# EAGLE library part DIODE_TVS_ARRAY_CM1293A (library PiezoFFC)
https://www.onsemi.com/pub/Collateral/CM1293A-D.PDF
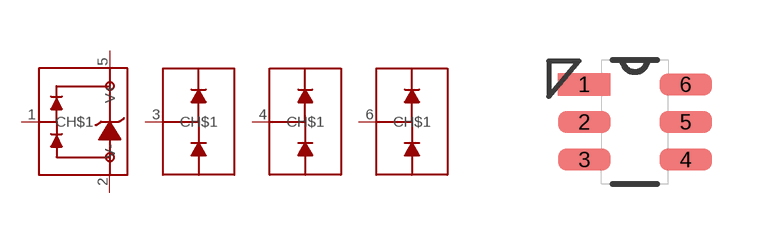
[diagram p1: symbol with the pads of SC-74-6; footprint SC-74-6]

Designator prefix D; gates G$1=TVS_DIODE_PRIMARY G$2=TVS_DIODE_CHANNEL G$3=TVS_DIODE_CHANNEL G$4=TVS_DIODE_CHANNEL

## DIODE_TVS_ARRAY_CM1293A  [SC-74-6]
1  G$1:CH$1
2  G$1:V-  pwr
3  G$2:CH$1
4  G$3:CH$1
5  G$1:V+  pwr
6  G$4:CH$1

## Footprint SC-74-6 (pad centres in mm)
smd 1.321 x 0.559: 1 -1.27,0.94; 2 -1.27,0; 3 -1.27,-0.94; 4 1.27,-0.94; 5 1.27,0; 6 1.27,0.94